# EAGLE library part Z80_CTC (library rcbussbc)
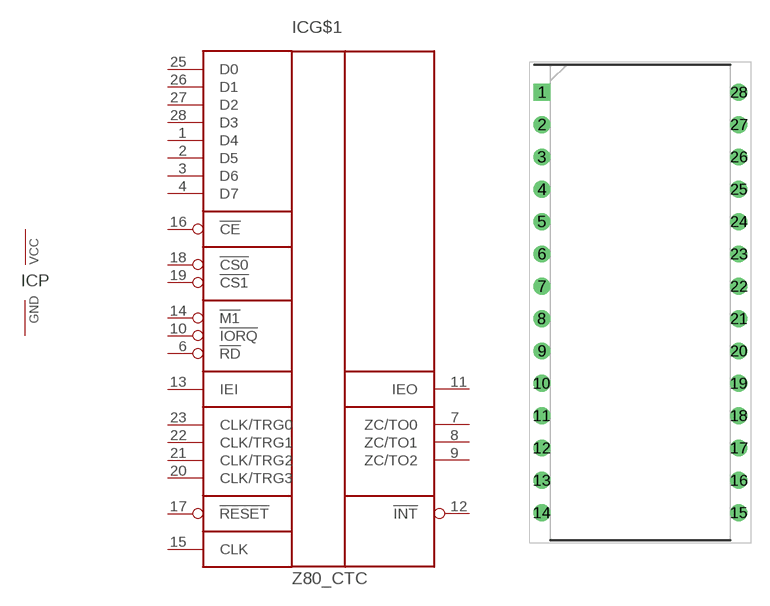
[diagram p15: symbol with the pads of DIL28; footprint DIL28]

Designator prefix IC; gates G$1=Z80_CTC P=PWRN:1

## Z80_CTC  [DIL28]
1  G$1:D4
2  G$1:D5
3  G$1:D6
4  G$1:D7
5  P:GND  pwr
6  G$1:!RD  in
7  G$1:ZC/TO0  out
8  G$1:ZC/TO1  out
9  G$1:ZC/TO2  out
10  G$1:!IORQ  in
11  G$1:IEO
12  G$1:!INT  oc
13  G$1:IEI  in
14  G$1:!M1  in
15  G$1:CLK  in
16  G$1:!CE  in
17  G$1:!RESET  in
18  G$1:!CS0  in
19  G$1:!CS1  in
20  G$1:CLK/TRG3  in
21  G$1:CLK/TRG2  in
22  G$1:CLK/TRG1  in
23  G$1:CLK/TRG0  in
24  P:VCC  pwr
25  G$1:D0
26  G$1:D1
27  G$1:D2
28  G$1:D3

## Footprint DIL28 (pad centres in mm)
28-Lead PDIP
drill 0.813 square: 1 -7.748,16.51
drill 0.813: 2 -7.748,13.97; 3 -7.748,11.43; 4 -7.748,8.89; 5 -7.748,6.35; 6 -7.748,3.81; 7 -7.748,1.27; 8 -7.748,-1.27; 9 -7.748,-3.81; 10 -7.748,-6.35; 11 -7.748,-8.89; 12 -7.748,-11.43; 13 -7.748,-13.97; 14 -7.748,-16.51; 15 7.748,-16.51; 16 7.748,-13.97; 17 7.748,-11.43; 18 7.748,-8.89; 19 7.748,-6.35; 20 7.748,-3.81; 21 7.748,-1.27; 22 7.748,1.27; 23 7.748,3.81; 24 7.748,6.35; 25 7.748,8.89; 26 7.748,11.43; 27 7.748,13.97; 28 7.748,16.51